# EAGLE library part SPD5K2 (library SPD5K2-AM004-2)
Navigation switch series SPD5K2 Manufacturer's datasheet <http://cdn-docs.av-iq.com/dataSheet//SPD5K2.pdf>
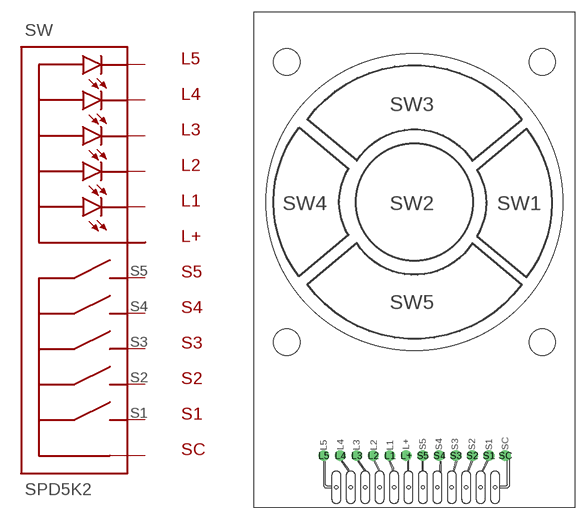
[diagram p0: symbol with the pads of SPD5K2; footprint SPD5K2]

Designator prefix SW

## SPD5K2 (CREATED_BY: PCBLayout.com; MPN: SPD5K2-AM004)  [SPD5K2]
L1  L1  pas
L2  L2  pas
L3  L3  pas
L4  L4  pas
L5  L5  pas
L+  L+
S1  S1  pas
S2  S2  pas
S3  S3  pas
S4  S4  pas
S5  S5  pas
SC  SC

## Footprint SPD5K2 (pad centres in mm)
drill 0.8: L1 -3,-30.75; L2 -5,-30.75; L3 -7,-30.75; L4 -9,-30.75; L5 -11,-30.75; L+ -1,-30.75; S1 9,-30.75; S2 7,-30.75; S3 5,-30.75; S4 3,-30.75; S5 1,-30.75; SC 11,-30.75
hole 3.2 at -15.5,17
hole 3.2 at 15.5,17
hole 3.2 at 15.5,-17
hole 3.2 at -15.5,-17